# Altium schematic symbol library References.SchLib: 2 symbols
Pins are listed as number, name and electrical type; pins without a type are passive.

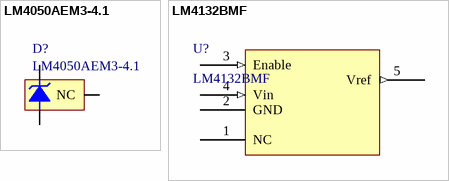
[diagram p0: symbols LM4050AEM3-4.1 to LM4132BMF]

## LM4050AEM3-4.1
designator D?
Voltage shunt referance; Supplier 1: Mouser; Supplier Part Number 1: 700-LM4050AEM3-4.1T
footprint LM4050AEM3 (Voltage shunt referance)
pins: 1 +V, 2 -V, 3 NC

## LM4132BMF
designator U?
Supplier 1: Farnell; Supplier Part Number 1: 2383129
footprint SOT95P280X145-5N (SOT23, 5-Leads, Body 2.90x2.80mm, Pitch 0.95mm, IPC Medium Density)
pins: 1 NC, 2 GND (power), 3 Enable (in), 4 Vin (in), 5 Vref (out)